# Altium footprint library SEI_CFM14.PcbLib: 1 footprints
Each footprint in its own frame and in the unit in brackets; x right, y up, seen from the top. Pads: shape width x height; smd on the part's side, far side on the other; paste and mask are expansions set on the pad; w line width, h text height; cw(c..) or ccw(c..) is an arc to the next point about the centre after c.
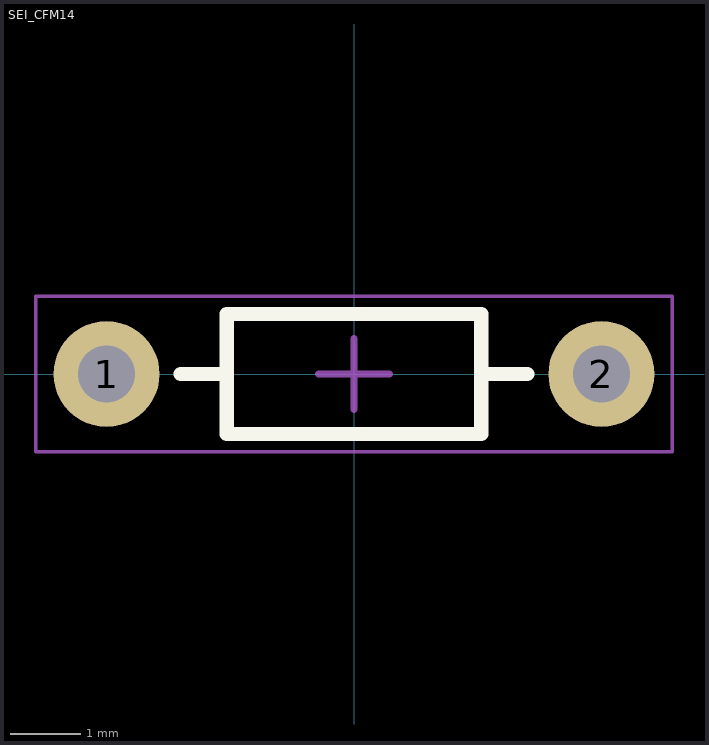
[diagram p0: the footprint, top view; thin cyan lines are the x and y axes]

## SEI_CFM14 [mm] "SEI_CFM14"
pads (2):
  round 1.5 hole 0.8 mask+0.05: 1(-3.5,0) 2(3.5,0)
Top Overlay:
  lines w0.2: -2.45,0 -1.8,0 ; 2.45,0 1.8,0 ; -1.8,0 -1.8,0.85 1.8,0.85 1.8,0 ; -1.8,0 -1.8,-0.85 1.8,-0.85 1.8,0
Mechanical 13:
  lines w0.1: -1.8,-0.85 1.8,-0.85 1.8,0.85 -1.8,0.85 -1.8,-0.85
Mechanical 15:
  lines w0.05: -4.5,-1.1 -4.5,1.1 4.5,1.1 4.5,-1.1 -4.5,-1.1
  lines w0.1: -0.5,0 0.5,0 ; 0,-0.5 0,0.5
3D body "SEI_CFM14.stp": height 1.84, standoff 0.16, extent -2.65,-0.85 2.65,0.85